# Altium schematic symbol library stm32c8t6.SCHLIB: 16 symbols
Pins are listed as number, name and electrical type; pins without a type are passive.

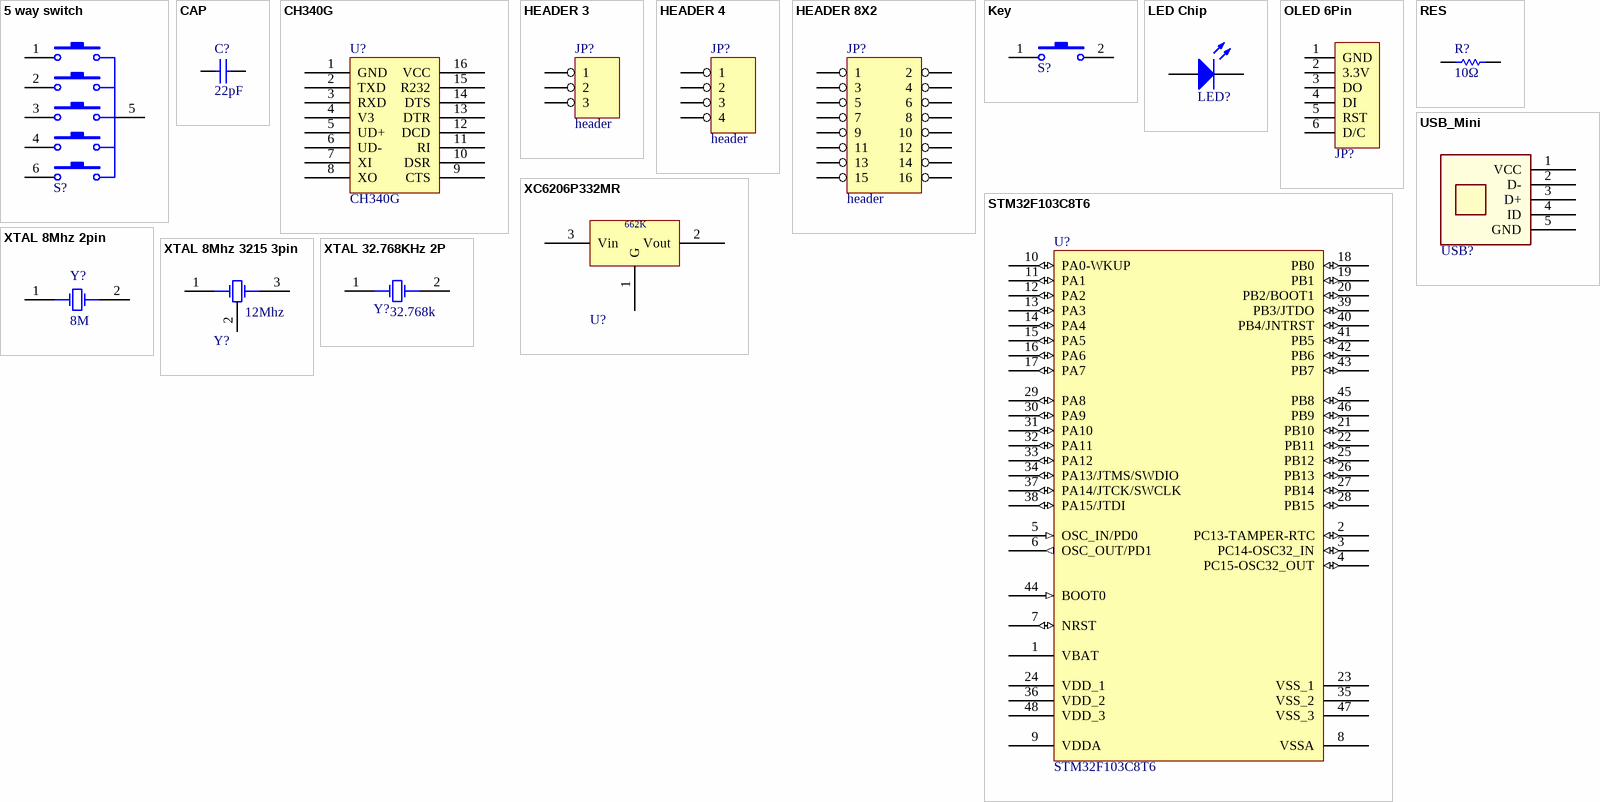
[diagram p0: symbols 5 way switch to XTAL 32.768KHz 2P]

## 5 way switch
designator S?  (value not drawn)
footprint 5 way switch
pins: 1, 2 1, 3 1, 4 1, 5 1, 6 1

## CAP
designator C?, comment 22pF
Capacitor; Value: 104; Published: 8-Jun-2000; LatestRevisionDate: 17-Jul-2002; LatestRevisionNote: Re-released for DXP Platform.; PackageReference: RAD-0.3; Publisher: Altium Limited
footprint 0805_c
footprint 0603_C (Capacitor)
footprint CD1 (瓷片、独石)
pins: 1, 2

## CH340G
designator U?
SOIC
footprint SOIC-16
pins: 1 GND, 2 TXD, 3 RXD, 4 V3, 5 UD+, 6 UD-, 7 XI, 8 XO, 9 CTS, 10 DSR, 11 RI, 12 DCD, 13 DTR, 14 DTS, 15 R232, 16 VCC

## HEADER 3
designator JP?, comment header
footprint header3
footprint header3HA
pins: 1, 2, 3

## HEADER 4
designator JP?, comment header
footprint header4
pins: 1, 2, 3, 4

## HEADER 8X2
designator JP?, comment header
footprint header2X8HA
footprint header2X8
pins: 1, 2, 3, 4, 5, 6, 7, 8, 9, 10, 11, 12, 13, 14, 15, 16

## Key
designator S?  (value not drawn)
footprint SWITCH 4*4
pins: 1, 2

## LED Chip
designator LED?  (value not drawn)
Typical Chip LED; Published: 8-Jun-2000; Revision: July-2002: Re-released for DXP Platform.; Publisher: Altium Limited
footprint CLED1005-0402
footprint CLED1608-0603
footprint CLED2012-0805
footprint CLED3216-1206
pins: 1 A, 2 K

## OLED 6Pin
designator JP?  (value not drawn)
footprint OLED_6Pin
pins: 1 GND, 2 3.3V, 3 DO, 4 DI, 5 RST, 6 D/C

## RES
designator R?, comment 10Ω
Resistor; Value: 1K; Published: 8-Jun-2000; Revision: July-2002: Re-released for DXP Platform.; Publisher: Altium Limited
footprint 0805_r
footprint 0603_R
pins: 1, 2
2 alternate drawings of the same symbol

## STM32F103C8T6
designator U?
STM32 ARM-based 32-bit MCU with 64 Kbytes Flash, 48-pin LQFP, Industrial Temperature; Published: 30-May-2008; DatasheetVersion: rev6, Mar-2008; PackageVersion: Mar-2008; PackageReference: LQFP48; Publisher: Altium Limited; PackageDescription: 48-Pin Low-Profile Quad Flat Pack, 7 x 7 mm Body, 0.5 mm Pitch (LQFP48); ComponentLink1Description: Manufacturer Link; ComponentLink1URL: www.st.com/stm32; ComponentLink2Description: Datasheet; ComponentLink2URL: http://www.st.com/stonline/products/literature/ds/13587.pdf
footprint LQFP48
pins: 1 VBAT (power), 2 PC13-TAMPER-RTC (io), 3 PC14-OSC32_IN (io), 4 PC15-OSC32_OUT (io), 5 OSC_IN/PD0 (in), 6 OSC_OUT/PD1 (out), 7 NRST (io), 8 VSSA (power), 9 VDDA (power), 10 PA0-WKUP (io), 11 PA1 (io), 12 PA2 (io), 13 PA3 (io), 14 PA4 (io), 15 PA5 (io), 16 PA6 (io), 17 PA7 (io), 18 PB0 (io), 19 PB1 (io), 20 PB2/BOOT1 (io), 21 PB10 (io), 22 PB11 (io), 23 VSS_1 (power), 24 VDD_1 (power), 25 PB12 (io), 26 PB13 (io), 27 PB14 (io), 28 PB15 (io), 29 PA8 (io), 30 PA9 (io), 31 PA10 (io), 32 PA11 (io), 33 PA12 (io), 34 PA13/JTMS/SWDIO (io), 35 VSS_2 (power), 36 VDD_2 (power), 37 PA14/JTCK/SWCLK (io), 38 PA15/JTDI (io), 39 PB3/JTDO (io), 40 PB4/JNTRST (io), 41 PB5 (io), 42 PB6 (io), 43 PB7 (io), 44 BOOT0 (in), 45 PB8 (io), 46 PB9 (io), 47 VSS_3 (power), 48 VDD_3 (power)

## USB_Mini
designator USB?  (value not drawn)
footprint USB_Mini2
pins: 1 VCC, 2 D-, 3 D+, 4 ID, 5 GND

## XC6206P332MR
designator U?  (value not drawn)
HelpURL: E:\Altium\Help\pdf\OP07X.pdf
footprint SOT95P280X120-3N (SOT23, 3-Leads, Body 3.00x2.80mm, Pitch 0.95mm, IPC Medium Density)
pins: 1 G (power), 2 Vout (power), 3 Vin (power)
text: 662K

## XTAL 8Mhz 2pin
designator Y?, comment 8M
footprint 5032 2Pin
footprint 3225 2PIN
pins: 1 OSC1, 2 OSC2

## XTAL 8Mhz 3215 3pin
designator Y?  (value not drawn)
footprint 3213 3Pin
pins: 1 OSC1, 2 OSC2, 3 OSC1
text: 12Mhz

## XTAL 32.768KHz 2P
designator Y?  (value not drawn)
footprint 3215 2Pin
pins: 1 OSC1, 2 OSC2
text: 32.768k